# Altium schematic symbol library Transistors.SchLib: 24 symbols
Pins are listed as number, name and electrical type; pins without a type are passive.

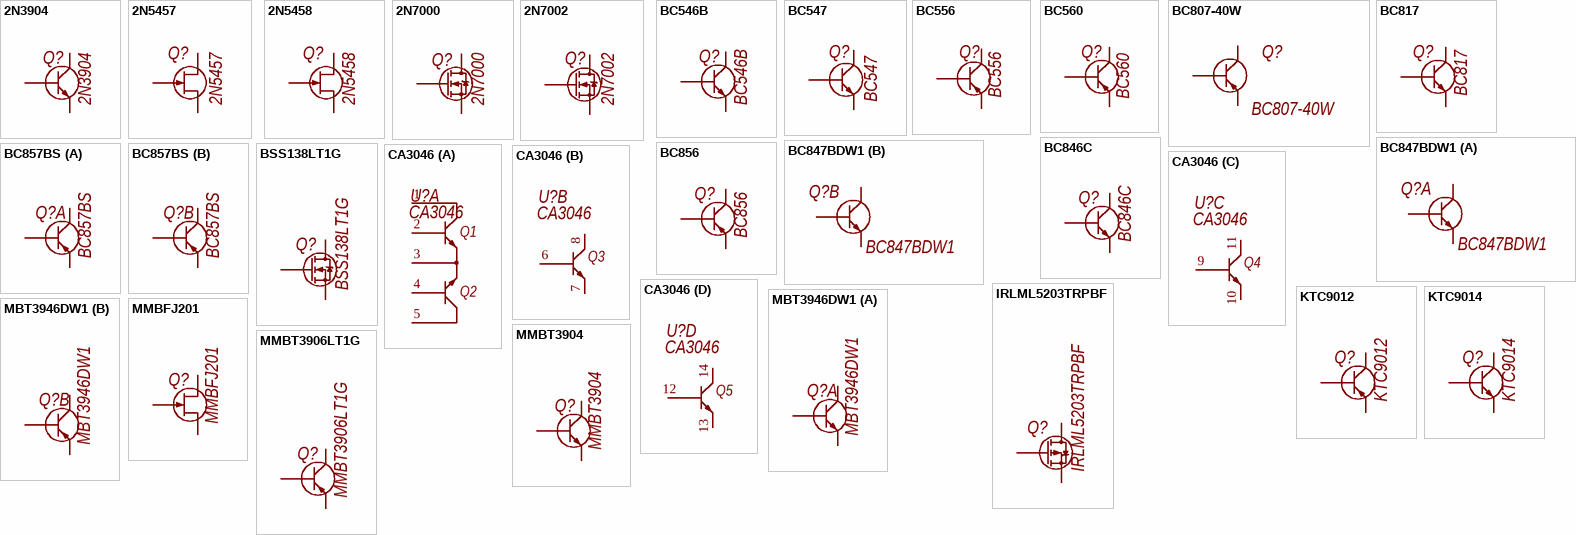
[diagram p0: symbols 2N3904 to MMBT3906LT1G]

## 2N3904
designator Q?
TRANS NPN 40V TO-92; Model: 2N3904
footprint TO-92
pins: 1, 2, 3

## 2N5457
designator Q?
JFET N-Channel 25V 310mW Through Hole TO-92; Model: 2N5457
footprint TO-92
pins: 1 D, 2 S, 3 G

## 2N5458
designator Q?
JFET N-Channel 25V 310mW Through Hole TO-92; Model: 2N5458
footprint TO-92
pins: 1 D, 2 S, 3 G

## 2N7000
designator Q?
N-Channel 60V 200mA (Tc) 400mW (Ta) Through Hole TO-92; Model: 2N7000
footprint TO-92
pins: 1 S, 2 G, 3 D

## 2N7002
designator Q?
N-Channel 60V 115mA (Ta) 200mW (Ta) Surface Mount SOT-23 (TO-236AB); Model: 2N7002
footprint SOT-23
pins: 1 G, 2 S, 3 D

## BC546B
designator Q?
Bipolar (BJT) Transistor NPN 45V 100mA 300MHz 500mW Through Hole TO-92-3; Model: BC546B
footprint TO-92
pins: 1, 2, 3

## BC547
designator Q?
Bipolar (BJT) Transistor NPN 45V 100mA 300MHz 500mW Through Hole TO-92-3; Model: BC547
footprint TO-92
pins: 1, 2, 3

## BC556
designator Q?
Bipolar (BJT) Transistor PNP 65V 100mA 150MHz 500mW Through Hole TO-92; Model: BC556
footprint TO-92
pins: 1, 2, 3

## BC560
designator Q?
Bipolar (BJT) Transistor PNP 45V 100mA 150MHz 500mW Through Hole TO-92-3; Model: BC560
footprint TO-92
pins: 1, 2, 3

## BC807-40W
designator Q?
Bipolar (BJT) Single Transistor, General Purpose, PNP, 45 V, 80 MHz, 200 mW, 500 mA, 250; Model: BC807-40W
footprint SOT-323
pins: 1, 2, 3

## BC817
designator Q?
Bipolar (BJT) Transistor NPN 45V 500mA 100MHz 250mW Surface Mount TO-236AB; Model: BC817
footprint SOT-23
pins: 1, 2, 3

## BC846C
designator Q?
Bipolar (BJT) Transistor NPN 65V 100mA 100MHz 225mW Surface Mount SOT-23-3 (TO-236); Model: BC846C
footprint SOT-23
pins: 1, 2, 3

## BC847BDW1
designator Q?
Bipolar (BJT) Transistor Array 2 NPN (Dual) 45V 100mA 100MHz 380mW Surface Mount SC-88/SC70-6/SOT-363; Model: BC847BDW1
footprint SOT-363
part A pins: 1, 2, 6
part B pins: 3, 4, 5

## BC856
designator Q?
Bipolar (BJT) Transistor PNP 65V 100mA 100MHz 250mW Surface Mount TO-236AB; Model: BC856
footprint SOT-23
pins: 1, 2, 3

## BC857BS
designator Q?
Bipolar (BJT) Transistor Array 2 PNP (Dual) 45V 100mA 100MHz 200mW Surface Mount 6-TSSOP; Model: BC857BS
footprint SOT-363
part A pins: 1, 2, 6
part B pins: 3, 4, 5

## BSS138LT1G
designator Q?
N-Channel 50V 200mA (Ta) 225mW (Ta) Surface Mount SOT-23-3 (TO-236); Model: BSS138LT1G
footprint SOT-23
pins: 1 G, 2 S, 3 D

## CA3046
designator U?
General Purpose NPN Transistor Array; Model: CA3046
footprint DIP-14
footprint DIP-14_LONG_PADS
part A pins: 1, 2, 3, 4, 5
part B pins: 6, 7, 8
part C pins: 9, 10, 11
part D pins: 12, 13, 14
part A text: Q1; Q2
part B text: Q3
part C text: Q4
part D text: Q5

## IRLML5203TRPBF
designator Q?
P-Channel 30V 3A (Ta) 1.25W (Ta) Surface Mount Micro3™/SOT-23; Model: IRLML5203TRPBF
footprint SOT-23
pins: 1 G, 2 S, 3 D

## KTC9012
designator Q?
Epitaxial planar PNP transistor; Model: KTC9012
footprint TO-92
pins: 1, 2, 3

## KTC9014
designator Q?
Epitaxial planar NPN transistor; Model: KTC9014
footprint TO-92
pins: 1, 2, 3

## MBT3946DW1
designator Q?
Bipolar (BJT) Transistor Array NPN, PNP 40V 200mA 300MHz, 250MHz 150mW Surface Mount SC; Model: MBT3946DW1
footprint SOT-363
part A pins: 1, 2, 6
part B pins: 3, 4, 5

## MMBFJ201
designator Q?
JFET N-Channel 40V 350mW Surface Mount SOT-23-3; Model: MMBFJ201
footprint SOT-23
pins: 1 D, 2 S, 3 G

## MMBT3904
designator Q?
Bipolar (BJT) Transistor NPN 40V 200mA 300MHz 300mW Surface Mount SOT-23-3 (TO-236); Model: MMBT3904
footprint SOT-23
pins: 1, 2, 3

## MMBT3906LT1G
designator Q?
MMBT3906L Series 40 V 200 mA PNP Silicon General Purpose Transistor - SOT-23-3; Model: MMBT3906LT1G
footprint SOT-23
pins: 1, 2, 3